# Altium schematic symbol library COOP4403_BerkantAY.SchLib: 54 symbols
Pins are listed as number, name and electrical type; pins without a type are passive.

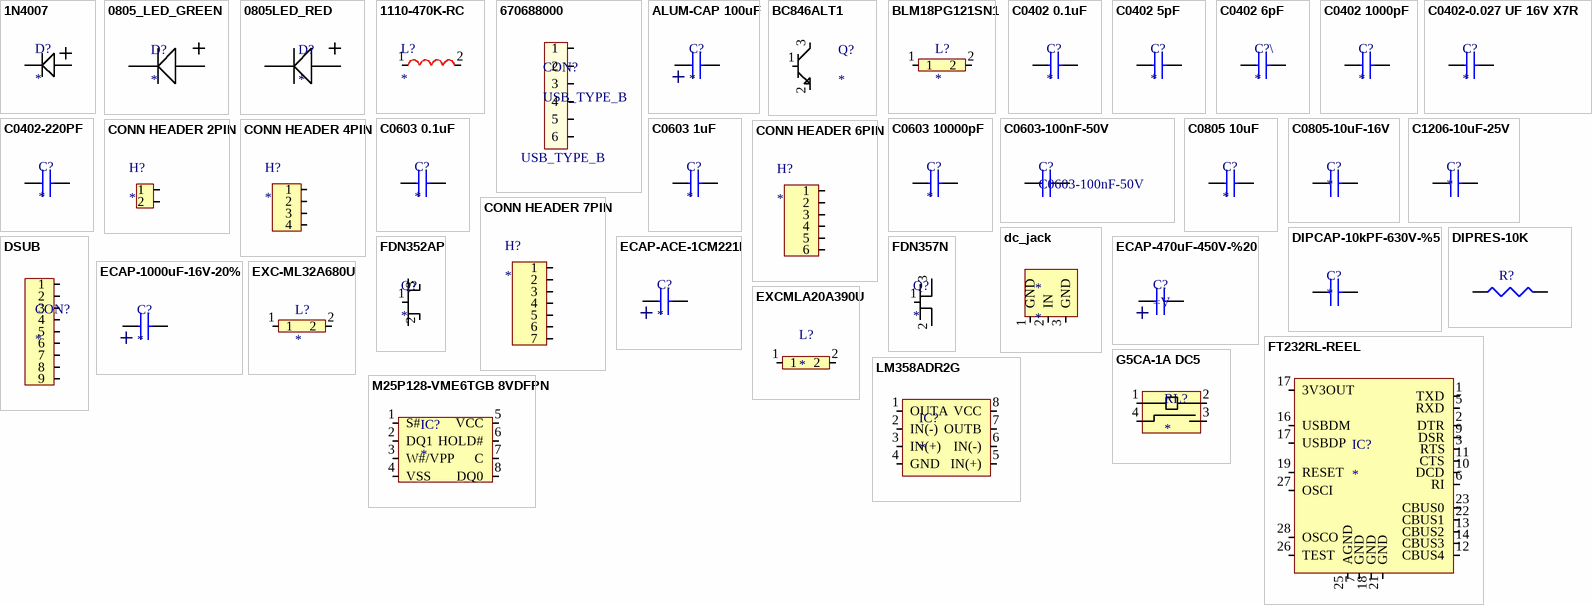
[diagram p0: symbols 1N4007 to M25P128-VME6TGB 8VDFPN]

## 1N4007
designator D?
ONSEMI 1N4007
footprint 1N4007
footprint 1N4007
pins: 1, 2

## 0805_LED_GREEN
designator D?
LGR971-KN OSRAM
footprint 0805LED_GREEN
pins: 1, 2

## 0805LED_RED
designator D?
LSR976
footprint 0805LED_GREEN
pins: 1, 2

## 1110-470K-RC
designator L?
FIXED IND 47UH 2.8A 62MOHM TH
footprint 1110 Coil
pins: 1, 2

## 670688000
designator CON?, comment USB_TYPE_B
CONN USB RT ANG RECPT TYPE B BLK
footprint CON_670688000 (CONN USB RT ANG RECPT TYPE B BLK)
pins: 1, 2, 3, 4, 5, 6

## ALUM-CAP 100uF
designator C?
CAP ALUM 100uF 20% 35V Radial
footprint ALUM-CAP (CAP ALUM 100uF 20% 35 Radial)
pins: 1, 2

## BC846ALT1
designator Q?
BJT TRANSISTOR NPN 65V 100MA
footprint BC846
pins: 1, 2, 3

## BLM18PG121SN1
designator L?
FERRITE BEAD 120OHM 2A
footprint C0603
pins: 1, 2

## C0402 0.1uF
designator C?
CAP CER 0.1uF 16V X7R 0402 / SAMSUNG
footprint C0402 (CL05B273K05NNNC 16V X7R)
pins: 1, 2

## C0402 5pF
designator C?
CAP CER 5pF 100V C0G/NP0 0402 /CBR04C509B1GAC
footprint C0402 (CL05B273K05NNNC 16V X7R)
pins: 1, 2

## C0402 6pF
designator C?\
CAP CER 6pF 100V C0G/NP0 0402 / KEMET
footprint C0402 (CL05B273K05NNNC 16V X7R)
pins: 1, 2

## C0402 1000pF
designator C?
CAP CER 1000pF 26V X7R 0402 / CL05B102KA5NNNC
footprint C0402 (CL05B273K05NNNC 16V X7R)
pins: 1, 2

## C0402-0.027 UF 16V X7R
designator C?
CAP CER 0.027 UF 16V X7R
footprint C0402 (CL05B273K05NNNC 16V X7R)
pins: 1, 2

## C0402-220PF
designator C?
CAP CER 220PF 50V C0G/NP0 0402
footprint C0402 (CL05B273K05NNNC 16V X7R)
pins: 1, 2

## C0603 0.1uF
designator C?
CAP CER 0.1uF 16V X7R 0603 / CL10B104K08NNNC
footprint C0603
pins: 1, 2

## C0603 1uF
designator C?
CAP CER 1uF 10V X7R 0603
footprint C0603
pins: 1, 2

## C0603 10000pF
designator C?
CAP CER 10000pF 25V 10% X7R 0603 / CL10B103KA8NNNC
footprint C0603
pins: 1, 2

## C0603-100nF-50V
designator C?
CL10B104KB8NNNC
footprint C0603
pins: 1, 2

## C0805 10uF
designator C?
CAP CER 10uF 6.3V X7R 0805 / C0805C106K9RACTU
footprint C0805
pins: 1, 2

## C0805-10uF-16V
designator C?
CL21B106KOQNNNE
footprint C0805
pins: 1, 2

## C1206-10uF-25V
designator C?
CL31A106KAHNNNE
footprint C1206
pins: 1, 2

## CONN HEADER 2PIN
designator H?
B2P-VHLFSN
footprint CON HEADER 2PIN
pins: 1, 2

## CONN HEADER 4PIN
designator H?
B4B-XHALFSN
footprint CON HEADER 4PIN
pins: 1, 2, 3, 4

## CONN HEADER 6PIN
designator H?
B6B-XHA
footprint CON HEADER 6PIN
pins: 1, 2, 3, 4, 5, 6

## CONN HEADER 7PIN
designator H?
B7B-XHA
footprint CON HEADER 7PIN
pins: 1, 2, 3, 4, 5, 6, 7

## dc_jack
designator *
footprint DC_JACK
pins: 1 GND, 2 IN, 3 GND

## DIPCAP-10kPF-630V-%5
designator C?
ECWF6103JL
footprint DIPCAP
pins: 1, 2

## DIPRES-10K
designator R?
MFR-25FRF52
footprint DIPRES - duplicate
pins: 1, 2

## DSUB
designator CON?
1734354 - DSUB
footprint DSUB
pins: 1, 2, 3, 4, 5, 6, 7, 8, 9

## ECAP-470uF-450V-%20
designator C?
450MXH470MEFCSN30X45
footprint ECAP
pins: 1, 2

## ECAP-1000uF-16V-20%
designator C?
CAP ALUM 1000pF 20% 16V / UCL1C102MNL1GS
footprint SMT_CAP
footprint CAP_SMT
footprint CAP_SMT
footprint CAP_SMT
footprint CAP_SMT
pins: 1, 2

## ECAP-ACE-1CM221I
designator C?
CAP ALUM 220uF %20 16V Radial
footprint ECAP-ACE-1CM221I (CAP ALUM 220uF %20 16V Radial)
pins: 1, 2

## EXC-ML32A680U
designator L?
FERRITE BEAD 68 OHM 1206
footprint C1206
pins: 1, 2

## EXCMLA20A390U
designator L?
FERRITE BEAD 39 OHM
footprint C0805
pins: 1, 2

## FDN352AP
designator Q?
MOSFET SINGLE PCH TRENCH
footprint BC846
pins: 1, 2, 3

## FDN357N
designator Q?
N CHANNEL LOGIC LEVEL ENGANCEMENT MODE FIELD EFFECT TRANSISTOR
footprint BC846
pins: 1, 2, 3

## FT232RL-REEL
designator IC?
IC USB FS SERIAL UART 28-SSOP
footprint SSOP28
pins: 1 TXD, 2 DTR, 3 RTS, 5 RXD, 6 RI, 7 GND, 9 DSR, 10 DCD, 11 CTS, 12 CBUS4, 13 CBUS2, 14 CBUS3, 16 USBDM, 17 3V3OUT, 17 USBDP, 18 GND, 19 RESET, 21 GND, 22 CBUS1, 23 CBUS0, 25 AGND, 26 TEST, 27 OSCI, 28 OSCO

## G5CA-1A DC5
designator RL?
RELAY GEN PURPOSES SPST 10A 5V
footprint RELAY OMRON
footprint RELAY OMRON
pins: 1, 2, 3, 4

## LM358ADR2G
designator IC?
LM358ADR2G
footprint SOP127P700X380-8N (SOP, 8-Leads, Body 4.80x3.80mm, Pitch 1.27mm, IPC Medium Density)
pins: 1 OUTA, 2 IN(-), 3 IN(+), 4 GND, 5 IN(+), 6 IN(-), 7 OUTB, 8 VCC

## M25P128-VME6TGB 8VDFPN
designator IC?
IC FLASH 128M SPI 54MHZ 9VDFPN
footprint QFN127P800X600X85_HS-9N (QFN, 8-Leads, Body 8.00x6.00mm, Pitch 1.27mm, Thermal Pad 5.20x4.80mm, IPC Medium Density)
pins: 1 S#, 2 DQ1, 3 W#/VPP, 4 VSS, 5 VCC, 6 HOLD#, 7 C, 8 DQ0

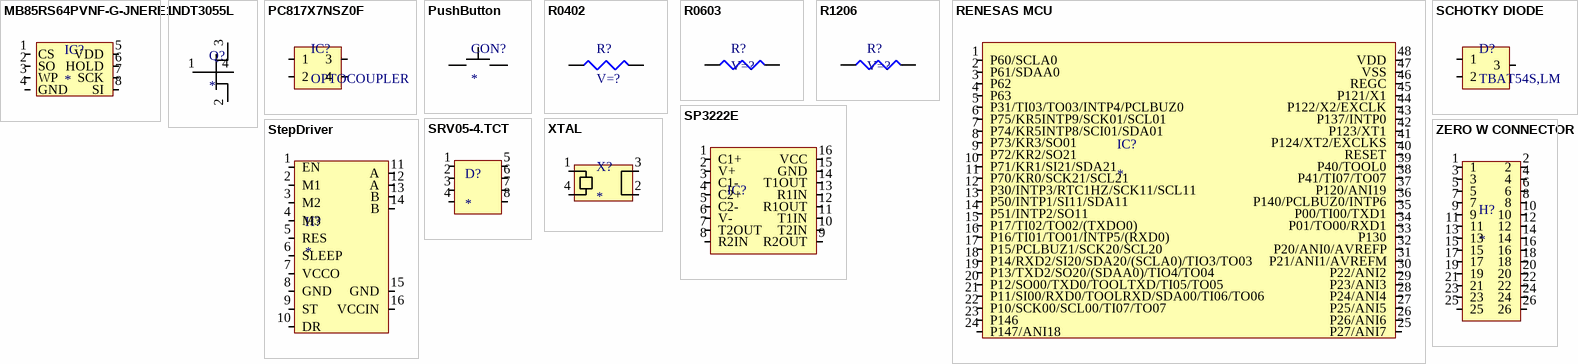
[diagram p1: symbols MB85RS64PVNF-G-JNERE1 to ZERO W CONNECTOR]

## MB85RS64PVNF-G-JNERE1
designator IC?
IC FRAM 64K SPI 20MHZ 8SOP
footprint FRAM-8SOP (IC FRAM 64K SPI 20MHZ 8SOP)
footprint TSOP127P600X155-8N (TSOP, 8-Leads, Body 5.05x3.90mm, Pitch 1.27mm, IPC Medium Density)
footprint TSOP127P600X155-8N (TSOP, 8-Leads, Body 5.05x3.90mm, Pitch 1.27mm, IPC Medium Density)
pins: 1 CS, 2 SO, 3 WP, 4 GND, 5 VDD, 6 HOLD, 7 SCK, 8 SI

## NDT3055L
designator Q?
N CHANNEL LOGIC LEVEL ENHANCEMENET MODE FIELD EFFECT TRANSISTOR
footprint BC846
footprint NDT
footprint NDT
pins: 1, 2, 3, 4

## PC817X7NSZ0F
designator IC?, comment OPTOCOUPLER
OPTOISOLATOR 5KV TRANS 4DIP
footprint 4DIP_OPTO
pins: 1, 2, 3, 4

## PushButton
designator CON?
SKPDACD010
footprint PUSHBUTTON
pins: 1, 2

## R0402
designator R?, comment V=?
RESISTOR
footprint PCBComponent_1
footprint r0402
footprint r0402
pins: 1, 2

## R0603
designator R?, comment V=?
CRCW06034R70FNEA
footprint C0603
pins: 1, 2

## R1206
designator R?, comment V=?
ERJ-8ENF10R0V
footprint C0603
pins: 1, 2

## RENESAS MCU
designator IC?
IC MCU 16BIT 32KB FLASH 48LQFP
footprint TSQFP50P900X900X160-48N (TSQFP, 48-Leads, Body 7.00x7.00mm, Pitch 0.50mm, IPC Medium Density)
pins: 1 P60/SCLA0, 2 P61/SDAA0, 3 P62, 4 P63, 5 P31/TI03/TO03/INTP4/PCLBUZ0, 6 P75/KR5INTP9/SCK01/SCL01, 7 P74/KR5INTP8/SCI01/SDA01, 8 P73/KR3/SO01, 9 P72/KR2/SO21, 10 P71/KR1/SI21/SDA21, 11 P70/KR0/SCK21/SCL21, 12 P30/INTP3/RTC1HZ/SCK11/SCL11, 13 P50/INTP1/SI11/SDA11, 14 P51/INTP2/SO11, 15 P17/TI02/TO02/(TXDO0), 16 P16/TI01/TO01/INTP5/(RXD0), 17 P15/PCLBUZ1/SCK20/SCL20, 18 P14/RXD2/SI20/SDA20/(SCLA0)/TIO3/TO03, 19 P13/TXD2/SO20/(SDAA0)/TIO4/TO04, 20 P12/SO00/TXD0/TOOLTXD/TI05/TO05, 21 P11/SI00/RXD0/TOOLRXD/SDA00/TI06/TO06, 22 P10/SCK00/SCL00/TI07/TO07, 23 P146, 24 P147/ANI18, 25 P27/ANI7, 26 P26/ANI6, 27 P25/ANI5, 28 P24/ANI4, 29 P23/ANI3, 30 P22/ANI2, 31 P21/ANI1/AVREFM, 32 P20/ANI0/AVREFP, 33 P130, 34 P01/TO00/RXD1, 35 P00/TI00/TXD1, 36 P140/PCLBUZ0/INTP6, 37 P120/ANI19, 38 P41/TI07/TO07, 39 P40/TOOL0, 40 RESET, 41 P124/XT2/EXCLKS, 42 P123/XT1, 43 P137/INTP0, 44 P122/X2/EXCLK, 45 P121/X1, 46 REGC, 47 VSS, 48 VDD

## SCHOTKY DIODE
designator D?, comment TBAT54S,LM
SCHOTTKY DIODE
footprint SOT95P245X110-3N (SOT23, 3-Leads, Body 2.90x2.45mm, Pitch 0.95mm, IPC Medium Density)
pins: 1, 2, 3

## SP3222E
designator IC?
IC TXRX RS232 ESD TRUE 16SSOP
footprint SSOP16
pins: 1 C1+, 2 V+, 3 C1-, 4 C2+, 5 C2-, 6 V-, 7 T2OUT, 8 R2IN, 9 R2OUT, 10 T2IN, 11 T1IN, 12 R1OUT, 13 R1IN, 14 T1OUT, 15 GND, 16 VCC

## SRV05-4.TCT
designator D?
TVS DIODE 5V 17.5V DIODE SOT23-6
footprint SOT23
pins: 1, 2, 3, 4, 5, 6, 7, 8

## StepDriver
designator H?
footprint easy driver
pins: 1 EN, 2 M1, 3 M2, 4 M3, 5 RES, 6 SLEEP, 7 VCCO, 8 GND, 9 ST, 10 DR, 11 A, 12 A, 13 B, 14 B, 15 GND, 16 VCCIN

## XTAL
designator X?
SSP-T7-F
footprint XTAL
pins: 1, 2, 3, 4

## ZERO W CONNECTOR
designator H?
26 PIN 2.5 MM HEADER
footprint 26 PIN HEADER
pins: 1, 2, 3, 4, 5, 6, 7, 8, 9, 10, 11, 12, 13, 14, 15, 16, 17, 18, 19, 20, 21, 22, 23, 24, 25, 26